# EAGLE library part FT231X (library devkit)
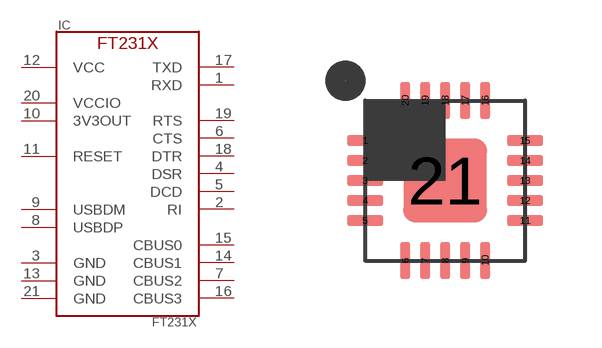
[diagram p3: symbol with the pads of QFN-20; footprint QFN-20]

Designator prefix IC

## FT231XQ  [QFN-20]
1  RXD
2  RI
3  GND
4  DSR
5  DCD
6  CTS
7  CBUS2
8  USBDP
9  USBDM
10  3V3OUT
11  RESET
12  VCC
13  GND
14  CBUS1
15  CBUS0
16  CBUS3
17  TXD
18  DTR
19  RTS
20  VCCIO
21  GND

## Footprint QFN-20 (pad centres in mm)
smd 0.9 x 0.25: 1 -2,1; 2 -2,0.5; 3 -2,0; 4 -2,-0.5; 5 -2,-1; 11 2,-1; 12 2,-0.5; 13 2,0; 14 2,0.5; 15 2,1
smd 0.25 x 0.9: 6 -1,-2; 7 -0.5,-2; 8 0,-2; 9 0.5,-2; 10 1,-2; 16 1,2; 17 0.5,2; 18 0,2; 19 -0.5,2; 20 -1,2
smd 2.1 x 2.1: 21 0,0